# EAGLE library part INA2132 (library Eagle_CAD_parts)
Dual, Low Power, Single-Supply DIFFERENCE AMPLIFIER
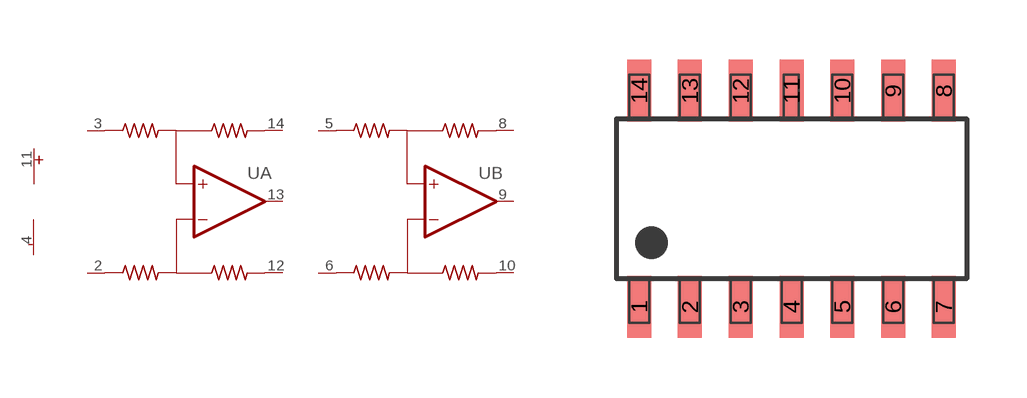
[diagram p75: symbol with the pads of SO-14; footprint SO-14]

Designator prefix U; gates A=OPAMP-DIFF B=OPAMP-DIFF SUP=ALIMENTACION

## INA2132 (DIGIKEY_PART_NUMBER: 296-48550-1-ND; MANUFACTURER_PART_NUMBER: INA2132UA/2K5; R1: 40 KOhm; R2: 40 KOhm; R3: 40 KOhm; R4: 40 KOhm; V_SUP: 2.7 ~ 36 V; V_SUP_DUAL: 1.35 ~ 18 V)  [SO-14]
2  A:-IN  in
3  A:+IN  in
4  SUP:V-  pwr
5  B:+IN  in
6  B:-IN  in
8  B:REF
9  B:OUT  oc
10  B:SENSE
11  SUP:V+  pwr
12  A:SENSE
13  A:OUT  oc
14  A:REF

## Footprint SO-14 (pad centres in mm)
smd 0.6 x 1.55: 1 -3.81,-2.7; 2 -2.54,-2.7; 3 -1.27,-2.7; 4 0,-2.7; 5 1.27,-2.7; 6 2.54,-2.7; 7 3.81,-2.7; 8 3.81,2.7; 9 2.54,2.7; 10 1.27,2.7; 11 0,2.7; 12 -1.27,2.7; 13 -2.54,2.7; 14 -3.81,2.7